# EAGLE library part LTC3225 (library linear-technology)
This Linear's SuperCap charger LTC3225. This will only draw 300mA. It uses a charge pump architecture and is also meant for 2 capacitors in series.
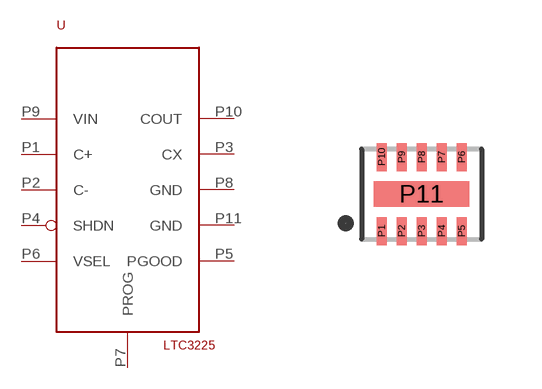
[diagram p35: symbol with the pads of DFN10-2X3; footprint DFN10-2X3]

Designator prefix U

## LTC3225  [DFN10-2X3]
P1  C+
P2  C-
P3  CX
P4  SHDN
P5  PGOOD
P6  VSEL
P7  PROG
P8  GND
P9  VIN
P10  COUT
P11  GND

## Footprint DFN10-2X3 (pad centres in mm)
DFN10-2x3 This is a DFN10-2x3
smd 0.25 x 0.7: P1 -2,-1.85; P2 -1.5,-1.85; P3 -1,-1.85; P4 -0.5,-1.85; P5 0,-1.85; P6 0,0; P7 -0.5,0; P8 -1,0; P9 -1.5,0; P10 -2,0
smd 2.39 x 0.64: P11 -1,-0.925